# Altium footprint library ESP8266.PcbLib: 4 footprints
Each footprint in its own frame and in the unit in brackets; x right, y up, seen from the top. Pads: shape width x height; smd on the part's side, far side on the other; paste and mask are expansions set on the pad; w line width, h text height; cw(c..) or ccw(c..) is an arc to the next point about the centre after c.
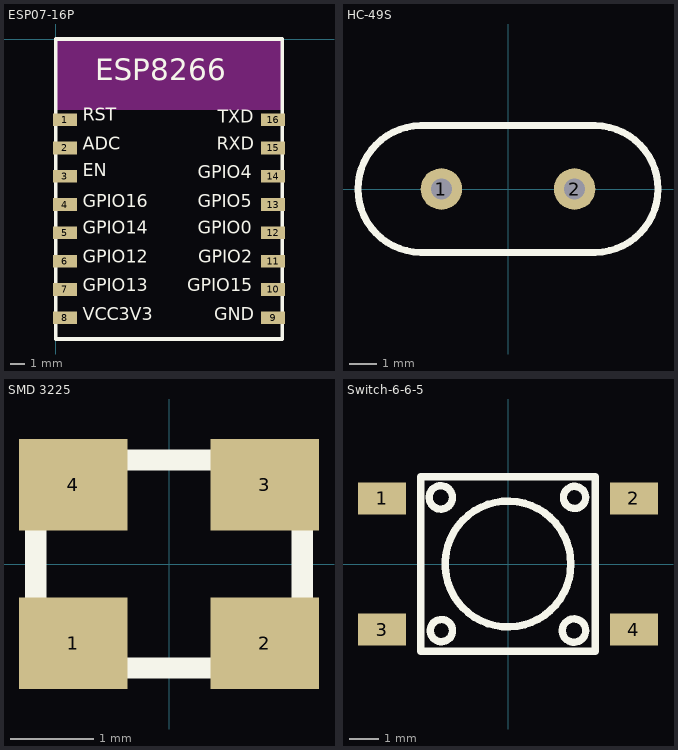
[diagram p0: the footprints below, top view; thin cyan lines are the x and y axes]

## ESP07-16P [mm] "ESP8266-07"
height 3
pads (16):
  rect 1.7x0.9 smd: 1(0.65,-5.7) 2(0.65,-7.7) 3(0.65,-9.7) 4(0.65,-11.7) 5(0.65,-13.7) 6(0.65,-15.7) 7(0.65,-17.7) 8(0.65,-19.7) 9(15.35,-19.7) 10(15.35,-17.7) 11(15.35,-15.7) 12(15.35,-13.7) 13(15.35,-11.7) 14(15.35,-9.7) 15(15.35,-7.7) 16(15.35,-5.7)
Top Overlay:
  lines w0.254: 0,-21.2 0,0 16,0 16,-21.2 0,-21.2
  text "ESP8266" at 2.794,-2.921 h1.52
  text "RST" at 1.905,-6.096 h1.52
  text "TXD" at 11.451,-6.223 h1.52
  text "ADC" at 1.905,-8.128 h1.52
  text "EN" at 1.905,-10.033 h1.52
  text "GPIO16" at 1.905,-12.192 h1.52
  text "GPIO14" at 1.905,-14.097 h1.52
  text "GPIO12" at 1.905,-16.129 h1.52
  text "GPIO13" at 1.905,-18.161 h1.52
  text "VCC3V3" at 1.905,-20.193 h1.52
  text "RXD" at 11.373,-8.128 h1.52
  text "GPIO4" at 10.043,-10.16 h1.52
  text "GPIO5" at 10.033,-12.192 h1.52
  text "GPIO0" at 10.043,-14.097 h1.52
  text "GPIO2" at 10.049,-16.129 h1.52
  text "GPIO15" at 9.275,-18.161 h1.52
  text "GND" at 11.189,-20.193 h1.52
Keep-Out Layer:
  rectangle: 0,-5 16,0

## HC-49S [mil] "HC-49S 12M 无源晶振"
height 137.8
pads (2):
  round 60 hole 30: 1(-96.06,0) 2(96.06,0)
Top Overlay:
  lines w10: -125.98,-91.54 cw(c-125,0) -125.98,91.54 125.98,91.54 cw(c125,0) 125.98,-91.54 -125.98,-91.54

## SMD 3225 [mm] "SMD 3225 12MHz 晶振"
height 0.7
pads (4):
  rect 1.3x1.1 smd: 1(-1.15,-0.95) 2(1.15,-0.95) 3(1.15,0.95) 4(-1.15,0.95)
Top Overlay:
  lines w0.254: -1.6,-1.25 -1.6,1.25 1.6,1.25 1.6,-1.25 -1.6,-1.25

## Switch-6-6-5 [mm] "4Pin 贴片 轻触开关"
height 3.5
pads (4):
  rect 1.65x1.1 smd: 1(-4.325,2.25) 2(4.325,2.25) 3(-4.325,-2.25) 4(4.325,-2.25)
Top Overlay:
  circle w0.254: c2.286,2.286 r0.381
  circle w0.254: c2.265,-2.286 r0.402
  circle w0.254: c-2.286,-2.286 r0.381
  circle w0.254: c-2.307,2.286 r0.402
  circle w0.254: c0,0 r2.159
  lines w0.254: -3,-3 -3,3 3,3 3,-3 -3,-3